# Altium schematic symbol library BC501SM-TR.SchLib: 1 symbol
Pins are listed as number, name and electrical type; pins without a type are passive.

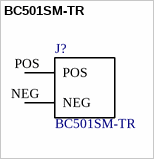
[diagram p0: symbol BC501SM-TR]

## BC501SM-TR
designator J?
SnapEDA_Link: https://www.snapeda.com/parts/BC501SM-TR/MPD%20%28Memory%20Protection%20Devices%29/view-part/479427/?ref=snap; Value: *
footprint *MPD_BC501SM-TR_BC501SM-TR(Primary)
pins: NEG, POS